# Altium footprint library THD Discrete Semiconductors.PcbLib: 20 footprints (part 1 of 2)
Each footprint in its own frame and in the unit in brackets; x right, y up, seen from the top. Pads: shape width x height; smd on the part's side, far side on the other; paste and mask are expansions set on the pad; w line width, h text height; cw(c..) or ccw(c..) is an arc to the next point about the centre after c.
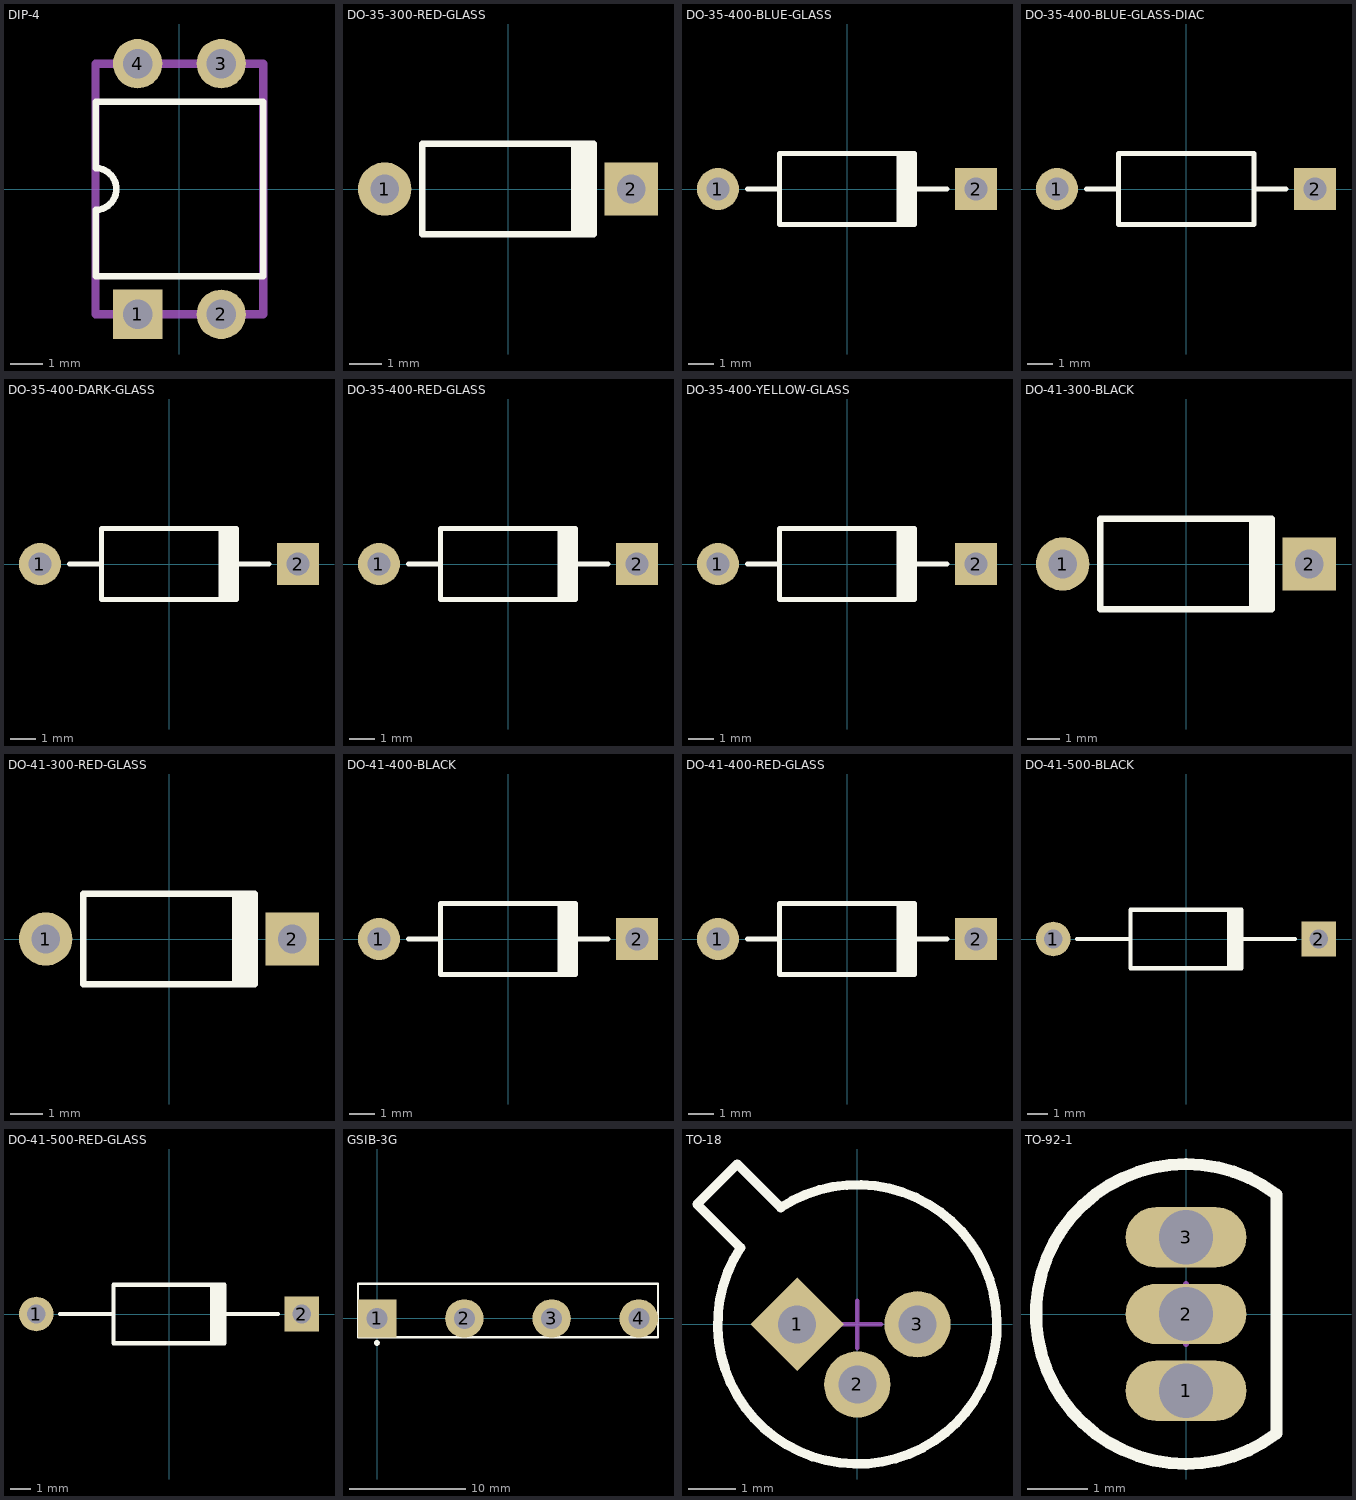
[diagram p0: the footprints below, top view; thin cyan lines are the x and y axes]

## DIP-4 [mm] "DIP; 4 Leads; Row Spacing 7.62 mm; Pitch 2.54 mm"
height 4.57
pads (4):
  rect 1.5x1.5 hole 0.9: 1(-1.27,-3.81)
  round 1.5 hole 0.9: 2(1.27,-3.81) 3(1.27,3.81) 4(-1.27,3.81)
Top Overlay:
  lines w0.2: -2.55,-2.65 2.55,-2.65 2.55,2.65 -2.55,2.65 -2.55,0.635 cw(c-2.55,0) -2.55,-0.635 -2.55,-2.65
Mechanical 13:
  lines w0.254: -2.55,3.81 -2.55,-3.81 2.55,-3.81 2.55,3.81 -2.5,3.81
3D body "DIP-4.step": height 4.54, standoff -2.76, extent -2.286,-3.935 2.294,3.935
3D body "DIP-4.step": height 4.54, standoff -2.76, extent -2.286,-3.935 2.294,3.935

## DO-35-300-RED-GLASS [mil] "Diode, Axial; Body 5.2 x 2.7 mm (LxDia. max), Lead Dia. 0.86 mm (max)"
height 110.24
pads (2):
  round 65 hole 35: 1(-150,0)
  rect 65x65 hole 35: 2(150,0)
Top Overlay:
  rectangle: 76.77,-55.12 108.27,55.12
  lines w7.87: 104.33,-55.12 -104.33,-55.12 -104.33,55.12 104.33,55.12
3D body "DO41-Glass-Red-300mil.STEP": height 109.25, standoff -68.74, extent -165.35,-47.28 165.36,47.29

## DO-35-400-BLUE-GLASS [mil] "Diode, Axial; Body 5.2 x 2.7 mm (LxDia. max), Lead Dia. 0.86 mm (max)"
height 110.24
pads (2):
  round 65 hole 35: 1(-200,0)
  rect 65x65 hole 35: 2(200,0)
Top Overlay:
  rectangle: 76.77,-55.12 108.27,55.12
  lines w7.87: -154.33,0.12 -105,0.12 ; 104.33,-55.12 -104.33,-55.12 -104.33,55.12 104.33,55.12 ; 105.67,0.12 155,0.12
3D body "DO41-Glass-Blue-400mil.STEP": height 109.25, standoff -68.74, extent -215.36,-47.28 215.35,47.28

## DO-35-400-BLUE-GLASS-DIAC [mil] "Diode, Axial; Body 5.2 x 2.7 mm (LxDia. max), Lead Dia. 0.86 mm (max)"
height 110.24
pads (2):
  round 65 hole 35: 1(-200,0)
  rect 65x65 hole 35: 2(200,0)
Top Overlay:
  lines w7.87: -154.33,0.12 -105,0.12 ; 104.33,-55.12 -104.33,-55.12 -104.33,55.12 104.33,55.12 ; 105.67,-55.12 105.67,55.12 ; 105.67,0.12 155,0.12
3D body "DO41-Glass-Blue-400mil-1.STEP": height 109.25, standoff -68.74, extent -215.35,-47.28 215.36,47.29

## DO-35-400-DARK-GLASS [mil] "Diode, Axial; Body 5.2 x 2.7 mm (LxDia. max), Lead Dia. 0.86 mm (max)"
height 110.24
pads (2):
  round 65 hole 35: 1(-200,0)
  rect 65x65 hole 35: 2(200,0)
Top Overlay:
  rectangle: 76.77,-55.12 108.27,55.12
  lines w7.87: -154.33,0.12 -105,0.12 ; 104.33,-55.12 -104.33,-55.12 -104.33,55.12 104.33,55.12 ; 105.67,0.12 155,0.12
3D body "DO41-Glass-Dark-400mil.STEP": height 109.25, standoff -68.74, extent -215.36,-47.28 215.35,47.28

## DO-35-400-RED-GLASS [mil] "Diode, Axial; Body 5.2 x 2.7 mm (LxDia. max), Lead Dia. 0.86 mm (max)"
height 110.24
pads (2):
  round 65 hole 35: 1(-200,0)
  rect 65x65 hole 35: 2(200,0)
Top Overlay:
  rectangle: 76.77,-55.12 108.27,55.12
  lines w7.87: -154.33,0.12 -105,0.12 ; 104.33,-55.12 -104.33,-55.12 -104.33,55.12 104.33,55.12 ; 105.67,0.12 155,0.12
3D body "DO41-Glass-Red-400mil.STEP": height 109.25, standoff -68.74, extent -215.35,-47.28 215.36,47.28

## DO-35-400-YELLOW-GLASS [mil] "Diode, Axial; Body 5.2 x 2.7 mm (LxDia. max), Lead Dia. 0.86 mm (max)"
height 110.24
pads (2):
  round 65 hole 35: 1(-200,0)
  rect 65x65 hole 35: 2(200,0)
Top Overlay:
  rectangle: 76.77,-55.12 108.27,55.12
  lines w7.87: -154.33,0.12 -105,0.12 ; 104.33,-55.12 -104.33,-55.12 -104.33,55.12 104.33,55.12 ; 105.67,0.12 155,0.12
3D body "DO41-Glass-Yellow-400mil.STEP": height 109.25, standoff -68.74, extent -215.36,-47.28 215.35,47.28

## DO-41-300-BLACK [mil] "Diode, Axial; Body 5.2 x 2.7 mm (LxDia. max), Lead Dia. 0.86 mm (max)"
height 110.24
pads (2):
  round 65 hole 35: 1(-150,0)
  rect 65x65 hole 35: 2(150,0)
Top Overlay:
  rectangle: 76.77,-55.12 108.27,55.12
  lines w7.87: 104.33,-55.12 -104.33,-55.12 -104.33,55.12 104.33,55.12
3D body "DO41-300mil.STEP": height 109.61, standoff -68.74, extent -163.78,-47.28 163.78,47.29

## DO-41-300-RED-GLASS [mil] "Diode, Axial; Body 5.2 x 2.7 mm (LxDia. max), Lead Dia. 0.86 mm (max)"
height 110.24
pads (2):
  round 65 hole 35: 1(-150,0)
  rect 65x65 hole 35: 2(150,0)
Top Overlay:
  rectangle: 76.77,-55.12 108.27,55.12
  lines w7.87: 104.33,-55.12 -104.33,-55.12 -104.33,55.12 104.33,55.12
3D body "DO41-Glass-Red-300mil.STEP": height 109.25, standoff -68.74, extent -165.35,-47.28 165.36,47.29

## DO-41-400-BLACK [mil] "Diode, Axial; Body 5.2 x 2.7 mm (LxDia. max), Lead Dia. 0.86 mm (max)"
height 110.24
pads (2):
  round 65 hole 35: 1(-200,0)
  rect 65x65 hole 35: 2(200,0)
Top Overlay:
  rectangle: 76.77,-55.12 108.27,55.12
  lines w7.87: -154.33,0.12 -105,0.12 ; 104.33,-55.12 -104.33,-55.12 -104.33,55.12 104.33,55.12 ; 105.67,0.12 155,0.12
3D body "DO41-400mil.STEP": height 109.61, standoff -68.74, extent -213.78,-47.28 213.78,47.28

## DO-41-400-RED-GLASS [mil] "Diode, Axial; Body 5.2 x 2.7 mm (LxDia. max), Lead Dia. 0.86 mm (max)"
height 110.24
pads (2):
  round 65 hole 35: 1(-200,0)
  rect 65x65 hole 35: 2(200,0)
Top Overlay:
  rectangle: 76.77,-55.12 108.27,55.12
  lines w7.87: -154.33,0.12 -105,0.12 ; 104.33,-55.12 -104.33,-55.12 -104.33,55.12 104.33,55.12 ; 105.67,0.12 155,0.12
3D body "DO41-Glass-Red-400mil.STEP": height 109.25, standoff -68.74, extent -215.35,-47.28 215.36,47.28

## DO-41-500-BLACK [mil] "Diode, Axial; Body 5.2 x 2.7 mm (LxDia. max), Lead Dia. 0.86 mm (max)"
height 110.24
pads (2):
  round 65 hole 35: 1(-250,0)
  rect 65x65 hole 35: 2(250,0)
Top Overlay:
  rectangle: 76.77,-55.12 108.27,55.12
  lines w7.87: -205,0.12 -105,0.12 ; 104.33,-55.12 -104.33,-55.12 -104.33,55.12 104.33,55.12 ; 105.67,0.12 205,0.12
3D body "DO41-500mil.STEP": height 109.61, standoff -68.74, extent -263.78,-47.29 263.78,47.28

## DO-41-500-RED-GLASS [mil] "Diode, Axial; Body 5.2 x 2.7 mm (LxDia. max), Lead Dia. 0.86 mm (max)"
height 110.24
pads (2):
  round 65 hole 35: 1(-250,0)
  rect 65x65 hole 35: 2(250,0)
Top Overlay:
  rectangle: 76.77,-55.12 108.27,55.12
  lines w7.87: -205,0.12 -105,0.12 ; 104.33,-55.12 -104.33,-55.12 -104.33,55.12 104.33,55.12 ; 105.67,0.12 205,0.12
3D body "DO41-Glass-Red-500mil.STEP": height 109.25, standoff -68.74, extent -265.35,-47.28 265.36,47.28

## GSIB-3G [mil] "Diode Bridge"
pads (4):
  rect 130x130 hole 71: 1(0,0)
  round 130 hole 71: 2(295,0) 3(590,0) 4(885,0)
Top Overlay:
  circle w9.84: c-0.98,-82.68 r4.92
  lines w7.87: -65,-63 -65,118 950,118 950,-63 -65,-63
3D body "KBJ-GSIB-3G.step": height 730.59, standoff -128.39, extent -52.12,-71.83 932.13,109.28

## TO-18 [mm] "Can; 3 Leads; Pin Circle Dia. 2.54 mm; Lead Dia. 0.48 mm (max)"
height 5.33
pads (3):
  rect 1.4x1.4 hole 0.8 rot 45: 1(-1.27,0)
  round 1.4 hole 0.8: 2(0,-1.27) 3(1.27,0)
Top Overlay:
  lines w0.2: -3.386,2.537 -2.467,1.618 ccw(c0,0) -1.618,2.467 -2.537,3.386 -3.386,2.537
Mechanical 15:
  lines w0.1: -0.5,0 0.5,0 ; 0,-0.5 0,0.5
3D body "TO-18-1.STEP": height 5.15, standoff -4.75, extent -4.428,-3.755 3.755,4.428

## TO-92-1 [mm] "TO, Flat Index; 3 In-Line, Axial Leads; Body Dia. 4.5mm; Leads 0.51 x 0.48 mm (max)"
height 6.86
pads (3):
  oval 2x1 hole 0.9: 1(0,-1.27) 2(0,0) 3(0,1.27)
Top Overlay:
  lines w0.2: 1.5,-1.98 cw(c0,0) 1.5,1.98 1.5,-1.98
Mechanical 15:
  lines w0.1: -0.5,0 0.5,0 ; 0,-0.5 0,0.5
3D body "TO-92-6.STEP": height 8.27, standoff -1.73, extent -2.413,-2.5 1.588,2.5